# Altium footprint library A783.PcbLib: 1 footprints
Each footprint in its own frame and in the unit in brackets; x right, y up, seen from the top. Pads: shape width x height; smd on the part's side, far side on the other; paste and mask are expansions set on the pad; w line width, h text height; cw(c..) or ccw(c..) is an arc to the next point about the centre after c.
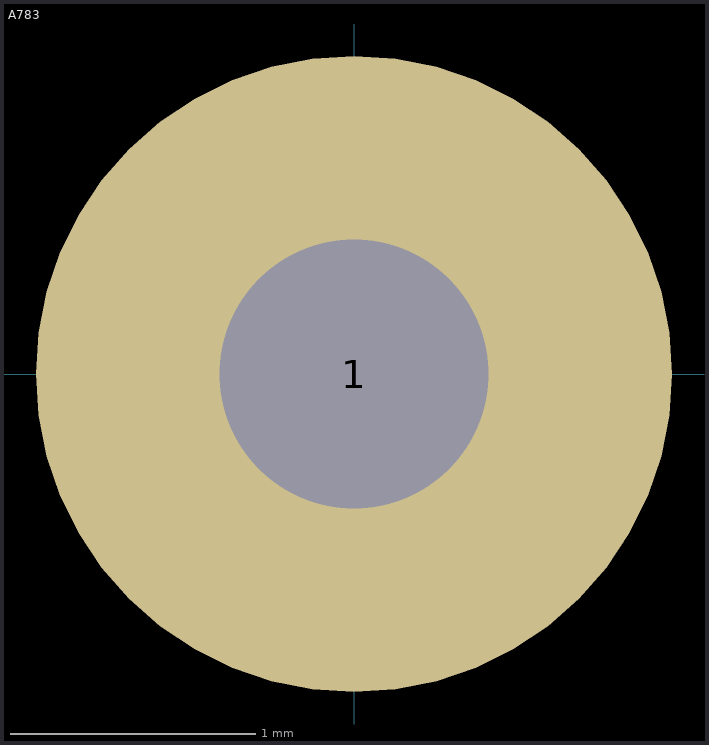
[diagram p0: the footprint, top view; thin cyan lines are the x and y axes]

## A783 [mm]
pads (1):
  round 2.6 hole 1.1: 1(0,0)
3D body: height 7.8, standoff -2, extent -1.246,-1.25 1.247,1.25